# Altium integrated library Linear Technology Power Management System Supervisor, Monitor and Control.IntLib: 1611 symbols (part 4 of 100)
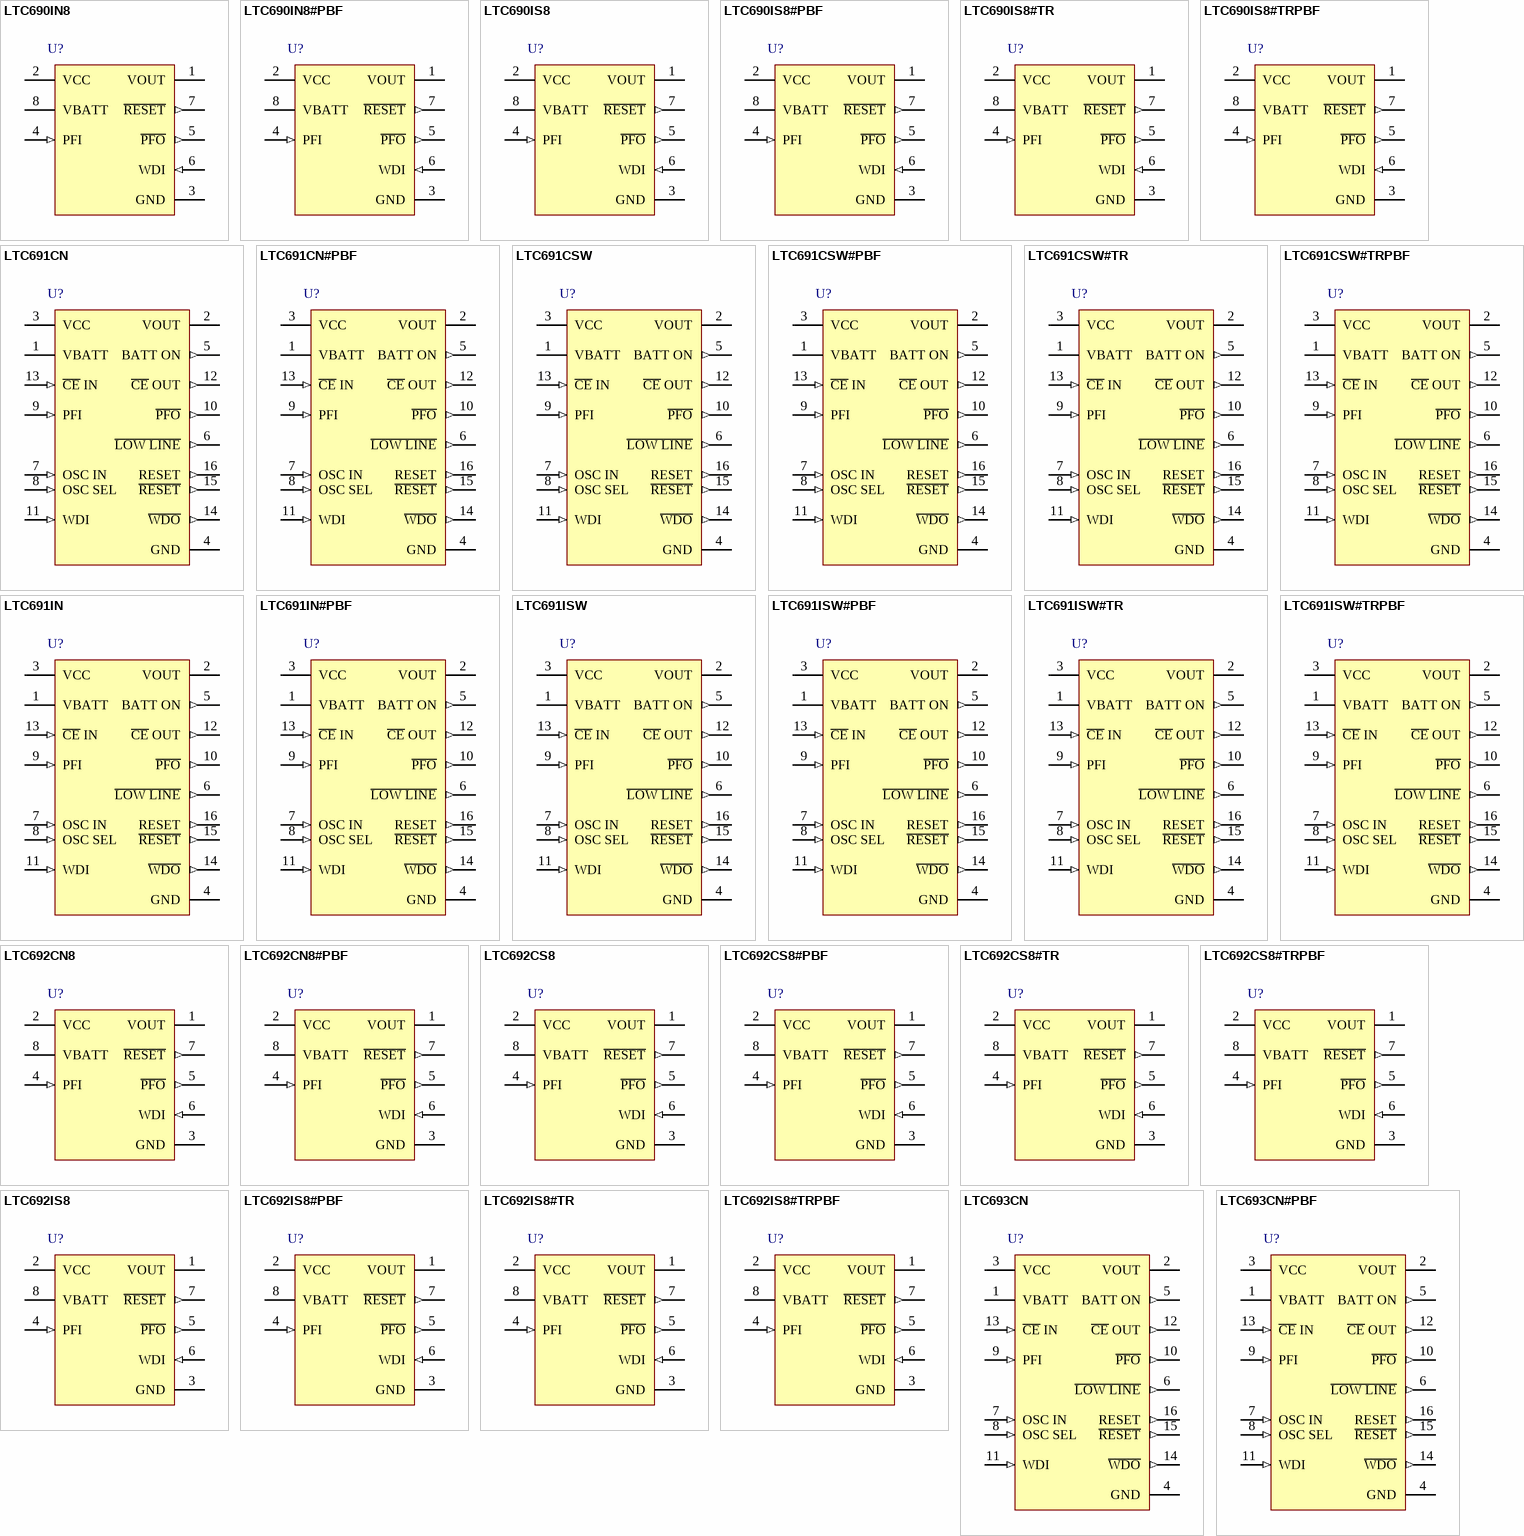
[diagram p48: symbols LTC690IN8 to LTC693CN#PBF]

## LTC692CN8#PBF
designator U?
Microprocessor Supervisory Circuit, 8-pin DIP (N8-8), 0 to 70 degC, Pb-Free; Manufacturer: Linear Technology; PartNumber: LTC692CN8#PBF; Number of Supplies(#): 1; DatasheetVersion: Rev. B; PackageVersion: Rev. I, 07/2011; PackageReference: N8-8; PackageDescription: 8-Pin PDIP, Body 10.16 x 6.48 mm, Pitch 2.54 mm; Supplier 1: Digi-Key; Supplier Part Number 1: LTC692CN8#PBF-ND; RoHS: TRUE; Mounting Technology: Through Hole; ComponentLink1Description: Manufacturer URL; ComponentLink1URL: http://www.linear.com/; ComponentLink2Description: Datasheet; ComponentLink2URL: http://cds.linear.com/docs/en/datasheet/0692fb.pdf; ComponentLink3Description: Package Specification; ComponentLink3URL: http://www.linear.com/docs/en/packaging/05081510_I_N8.pdf
footprint LT-N8-8 (DIP, 8-Leads, Body 10.15x6.85mm, Pitch 2.54mm)
pins: 1 VOUT (power) "Voltage Output for Backed Up Memory. Bypass with a capacitor of 0.1uF or greater. During normal operation, VOUT obtains power from VCC through an NMOS power switch, M1, which can deliver up to 50mA and has a typical on (See Datasheet)", 2 VCC (power), 3 GND (power) "Ground pin.", 4 PFI (in) "Power Failure Input. PFI is the noninverting input to the power-fail comparator, C3. The inverting input is internally connected to a 1.3V reference. The power failure output remains high when PFI is above 1.3V and goes low (See Datasheet)", 5 ~{PFO} (out) "Power Failure Output from C3. P\F\O\ remains high when PFI is above 1.3V and goes low when PFI is below 1.3V. When VCC is lower than VBATT, C3 is shut down and P\F\O\ is forced low.", 6 WDI (in) "Watchdog Input, WDI, is a three level input. Driving WDI either high or low for longer than the watchdog timeout period, forces both R\E\S\E\T\ and W\D\O\ low. Floating WDI disables the watchdog timer. The timer resets (See Datasheet)", 7 ~{RESET} (out), 8 VBATT (power) "Back-Up Battery Input. When VCC falls below VBATT, auxiliary power, connected to VBATT, is delivered to VOUT through PMOS switch, M2. If back-up battery or auxiliary power is not used, VBATT should be connected to GND."

## LTC692CS8
designator U?
Microprocessor Supervisory Circuit, 8-pin SOIC (S8-8), 0 to 70 degC; Manufacturer: Linear Technology; PartNumber: LTC692CS8; Number of Supplies(#): 1; DatasheetVersion: Rev. B; PackageVersion: Rev. G, 03/2012; PackageReference: S8-8; PackageDescription: 8-Pin Plastic Small Outline (Narrow .150 Inch), Body 4.9 x 3.9 mm, Pitch 1.27 mm; Supplier 1: Digi-Key; Supplier Part Number 1: LTC692CS8-ND; RoHS: FALSE; Mounting Technology: Surface Mount; ComponentLink1Description: Manufacturer URL; ComponentLink1URL: http://www.linear.com/; ComponentLink2Description: Datasheet; ComponentLink2URL: http://cds.linear.com/docs/en/datasheet/0692fb.pdf; ComponentLink3Description: Package Specification; ComponentLink3URL: http://cds.linear.com/docs/en/packaging/05081610_G_SO8.pdf
footprint LT-S8-8_N (SOIC, 8-Leads, Body 5x4mm, Pitch 1.27mm, IPC Medium Density)
footprint LT-S8-8_L (SOIC, 8-Leads, Body 5x4mm, Pitch 1.27mm, IPC High Density)
footprint LT-S8-8_M (SOIC, 8-Leads, Body 5x4mm, Pitch 1.27mm, IPC Low Density)
pins: 1 VOUT (power) "Voltage Output for Backed Up Memory. Bypass with a capacitor of 0.1uF or greater. During normal operation, VOUT obtains power from VCC through an NMOS power switch, M1, which can deliver up to 50mA and has a typical on (See Datasheet)", 2 VCC (power), 3 GND (power) "Ground pin.", 4 PFI (in) "Power Failure Input. PFI is the noninverting input to the power-fail comparator, C3. The inverting input is internally connected to a 1.3V reference. The power failure output remains high when PFI is above 1.3V and goes low (See Datasheet)", 5 ~{PFO} (out) "Power Failure Output from C3. P\F\O\ remains high when PFI is above 1.3V and goes low when PFI is below 1.3V. When VCC is lower than VBATT, C3 is shut down and P\F\O\ is forced low.", 6 WDI (in) "Watchdog Input, WDI, is a three level input. Driving WDI either high or low for longer than the watchdog timeout period, forces both R\E\S\E\T\ and W\D\O\ low. Floating WDI disables the watchdog timer. The timer resets (See Datasheet)", 7 ~{RESET} (out), 8 VBATT (power) "Back-Up Battery Input. When VCC falls below VBATT, auxiliary power, connected to VBATT, is delivered to VOUT through PMOS switch, M2. If back-up battery or auxiliary power is not used, VBATT should be connected to GND."

## LTC692CS8#PBF
designator U?
Microprocessor Supervisory Circuit, 8-pin SOIC (S8-8), 0 to 70 degC, Pb-Free; Manufacturer: Linear Technology; PartNumber: LTC692CS8#PBF; Number of Supplies(#): 1; DatasheetVersion: Rev. B; PackageVersion: Rev. G, 03/2012; PackageReference: S8-8; PackageDescription: 8-Pin Plastic Small Outline (Narrow .150 Inch), Body 4.9 x 3.9 mm, Pitch 1.27 mm; Supplier 1: Digi-Key; Supplier Part Number 1: LTC692CS8#PBF-ND; RoHS: TRUE; Mounting Technology: Surface Mount; ComponentLink1Description: Manufacturer URL; ComponentLink1URL: http://www.linear.com/; ComponentLink2Description: Datasheet; ComponentLink2URL: http://cds.linear.com/docs/en/datasheet/0692fb.pdf; ComponentLink3Description: Package Specification; ComponentLink3URL: http://cds.linear.com/docs/en/packaging/05081610_G_SO8.pdf
footprint LT-S8-8_N (SOIC, 8-Leads, Body 5x4mm, Pitch 1.27mm, IPC Medium Density)
footprint LT-S8-8_L (SOIC, 8-Leads, Body 5x4mm, Pitch 1.27mm, IPC High Density)
footprint LT-S8-8_M (SOIC, 8-Leads, Body 5x4mm, Pitch 1.27mm, IPC Low Density)
pins: 1 VOUT (power) "Voltage Output for Backed Up Memory. Bypass with a capacitor of 0.1uF or greater. During normal operation, VOUT obtains power from VCC through an NMOS power switch, M1, which can deliver up to 50mA and has a typical on (See Datasheet)", 2 VCC (power), 3 GND (power) "Ground pin.", 4 PFI (in) "Power Failure Input. PFI is the noninverting input to the power-fail comparator, C3. The inverting input is internally connected to a 1.3V reference. The power failure output remains high when PFI is above 1.3V and goes low (See Datasheet)", 5 ~{PFO} (out) "Power Failure Output from C3. P\F\O\ remains high when PFI is above 1.3V and goes low when PFI is below 1.3V. When VCC is lower than VBATT, C3 is shut down and P\F\O\ is forced low.", 6 WDI (in) "Watchdog Input, WDI, is a three level input. Driving WDI either high or low for longer than the watchdog timeout period, forces both R\E\S\E\T\ and W\D\O\ low. Floating WDI disables the watchdog timer. The timer resets (See Datasheet)", 7 ~{RESET} (out), 8 VBATT (power) "Back-Up Battery Input. When VCC falls below VBATT, auxiliary power, connected to VBATT, is delivered to VOUT through PMOS switch, M2. If back-up battery or auxiliary power is not used, VBATT should be connected to GND."

## LTC692CS8#TR
designator U?
Microprocessor Supervisory Circuit, 8-pin SOIC (S8-8), 0 to 70 degC, Tape and Reel; Manufacturer: Linear Technology; PartNumber: LTC692CS8#TR; Number of Supplies(#): 1; DatasheetVersion: Rev. B; PackageVersion: Rev. G, 03/2012; PackageReference: S8-8; PackageDescription: 8-Pin Plastic Small Outline (Narrow .150 Inch), Body 4.9 x 3.9 mm, Pitch 1.27 mm; Supplier 1: Digi-Key; Supplier Part Number 1: LTC692CS8#TR-ND; Packing: Tape and Reel; RoHS: FALSE; Mounting Technology: Surface Mount; ComponentLink1Description: Manufacturer URL; ComponentLink1URL: http://www.linear.com/; ComponentLink2Description: Datasheet; ComponentLink2URL: http://cds.linear.com/docs/en/datasheet/0692fb.pdf; ComponentLink3Description: Package Specification; ComponentLink3URL: http://cds.linear.com/docs/en/packaging/05081610_G_SO8.pdf
footprint LT-S8-8_N (SOIC, 8-Leads, Body 5x4mm, Pitch 1.27mm, IPC Medium Density)
footprint LT-S8-8_L (SOIC, 8-Leads, Body 5x4mm, Pitch 1.27mm, IPC High Density)
footprint LT-S8-8_M (SOIC, 8-Leads, Body 5x4mm, Pitch 1.27mm, IPC Low Density)
pins: 1 VOUT (power) "Voltage Output for Backed Up Memory. Bypass with a capacitor of 0.1uF or greater. During normal operation, VOUT obtains power from VCC through an NMOS power switch, M1, which can deliver up to 50mA and has a typical on (See Datasheet)", 2 VCC (power), 3 GND (power) "Ground pin.", 4 PFI (in) "Power Failure Input. PFI is the noninverting input to the power-fail comparator, C3. The inverting input is internally connected to a 1.3V reference. The power failure output remains high when PFI is above 1.3V and goes low (See Datasheet)", 5 ~{PFO} (out) "Power Failure Output from C3. P\F\O\ remains high when PFI is above 1.3V and goes low when PFI is below 1.3V. When VCC is lower than VBATT, C3 is shut down and P\F\O\ is forced low.", 6 WDI (in) "Watchdog Input, WDI, is a three level input. Driving WDI either high or low for longer than the watchdog timeout period, forces both R\E\S\E\T\ and W\D\O\ low. Floating WDI disables the watchdog timer. The timer resets (See Datasheet)", 7 ~{RESET} (out), 8 VBATT (power) "Back-Up Battery Input. When VCC falls below VBATT, auxiliary power, connected to VBATT, is delivered to VOUT through PMOS switch, M2. If back-up battery or auxiliary power is not used, VBATT should be connected to GND."

## LTC692CS8#TRPBF
designator U?
Microprocessor Supervisory Circuit, 8-pin SOIC (S8-8), 0 to 70 degC, Pb-Free, Tape and Reel; Manufacturer: Linear Technology; PartNumber: LTC692CS8#TRPBF; Number of Supplies(#): 1; DatasheetVersion: Rev. B; PackageVersion: Rev. G, 03/2012; PackageReference: S8-8; PackageDescription: 8-Pin Plastic Small Outline (Narrow .150 Inch), Body 4.9 x 3.9 mm, Pitch 1.27 mm; Supplier 1: Digi-Key; Supplier Part Number 1: LTC692CS8#TRPBF-ND; Packing: Tape and Reel; RoHS: TRUE; Mounting Technology: Surface Mount; ComponentLink1Description: Manufacturer URL; ComponentLink1URL: http://www.linear.com/; ComponentLink2Description: Datasheet; ComponentLink2URL: http://cds.linear.com/docs/en/datasheet/0692fb.pdf; ComponentLink3Description: Package Specification; ComponentLink3URL: http://cds.linear.com/docs/en/packaging/05081610_G_SO8.pdf
footprint LT-S8-8_N (SOIC, 8-Leads, Body 5x4mm, Pitch 1.27mm, IPC Medium Density)
footprint LT-S8-8_L (SOIC, 8-Leads, Body 5x4mm, Pitch 1.27mm, IPC High Density)
footprint LT-S8-8_M (SOIC, 8-Leads, Body 5x4mm, Pitch 1.27mm, IPC Low Density)
pins: 1 VOUT (power) "Voltage Output for Backed Up Memory. Bypass with a capacitor of 0.1uF or greater. During normal operation, VOUT obtains power from VCC through an NMOS power switch, M1, which can deliver up to 50mA and has a typical on (See Datasheet)", 2 VCC (power), 3 GND (power) "Ground pin.", 4 PFI (in) "Power Failure Input. PFI is the noninverting input to the power-fail comparator, C3. The inverting input is internally connected to a 1.3V reference. The power failure output remains high when PFI is above 1.3V and goes low (See Datasheet)", 5 ~{PFO} (out) "Power Failure Output from C3. P\F\O\ remains high when PFI is above 1.3V and goes low when PFI is below 1.3V. When VCC is lower than VBATT, C3 is shut down and P\F\O\ is forced low.", 6 WDI (in) "Watchdog Input, WDI, is a three level input. Driving WDI either high or low for longer than the watchdog timeout period, forces both R\E\S\E\T\ and W\D\O\ low. Floating WDI disables the watchdog timer. The timer resets (See Datasheet)", 7 ~{RESET} (out), 8 VBATT (power) "Back-Up Battery Input. When VCC falls below VBATT, auxiliary power, connected to VBATT, is delivered to VOUT through PMOS switch, M2. If back-up battery or auxiliary power is not used, VBATT should be connected to GND."

## LTC692IS8
designator U?
Microprocessor Supervisory Circuit, 8-pin SOIC (S8-8), -40 to 85 degC; Manufacturer: Linear Technology; PartNumber: LTC692IS8; Number of Supplies(#): 1; DatasheetVersion: Rev. B; PackageVersion: Rev. G, 03/2012; PackageReference: S8-8; PackageDescription: 8-Pin Plastic Small Outline (Narrow .150 Inch), Body 4.9 x 3.9 mm, Pitch 1.27 mm; Supplier 1: Digi-Key; Supplier Part Number 1: LTC692IS8-ND; RoHS: FALSE; Mounting Technology: Surface Mount; ComponentLink1Description: Manufacturer URL; ComponentLink1URL: http://www.linear.com/; ComponentLink2Description: Datasheet; ComponentLink2URL: http://cds.linear.com/docs/en/datasheet/0692fb.pdf; ComponentLink3Description: Package Specification; ComponentLink3URL: http://cds.linear.com/docs/en/packaging/05081610_G_SO8.pdf
footprint LT-S8-8_N (SOIC, 8-Leads, Body 5x4mm, Pitch 1.27mm, IPC Medium Density)
footprint LT-S8-8_L (SOIC, 8-Leads, Body 5x4mm, Pitch 1.27mm, IPC High Density)
footprint LT-S8-8_M (SOIC, 8-Leads, Body 5x4mm, Pitch 1.27mm, IPC Low Density)
pins: 1 VOUT (power) "Voltage Output for Backed Up Memory. Bypass with a capacitor of 0.1uF or greater. During normal operation, VOUT obtains power from VCC through an NMOS power switch, M1, which can deliver up to 50mA and has a typical on (See Datasheet)", 2 VCC (power), 3 GND (power) "Ground pin.", 4 PFI (in) "Power Failure Input. PFI is the noninverting input to the power-fail comparator, C3. The inverting input is internally connected to a 1.3V reference. The power failure output remains high when PFI is above 1.3V and goes low (See Datasheet)", 5 ~{PFO} (out) "Power Failure Output from C3. P\F\O\ remains high when PFI is above 1.3V and goes low when PFI is below 1.3V. When VCC is lower than VBATT, C3 is shut down and P\F\O\ is forced low.", 6 WDI (in) "Watchdog Input, WDI, is a three level input. Driving WDI either high or low for longer than the watchdog timeout period, forces both R\E\S\E\T\ and W\D\O\ low. Floating WDI disables the watchdog timer. The timer resets (See Datasheet)", 7 ~{RESET} (out), 8 VBATT (power) "Back-Up Battery Input. When VCC falls below VBATT, auxiliary power, connected to VBATT, is delivered to VOUT through PMOS switch, M2. If back-up battery or auxiliary power is not used, VBATT should be connected to GND."

## LTC692IS8#PBF
designator U?
Microprocessor Supervisory Circuit, 8-pin SOIC (S8-8), -40 to 85 degC, Pb-Free; Manufacturer: Linear Technology; PartNumber: LTC692IS8#PBF; Number of Supplies(#): 1; DatasheetVersion: Rev. B; PackageVersion: Rev. G, 03/2012; PackageReference: S8-8; PackageDescription: 8-Pin Plastic Small Outline (Narrow .150 Inch), Body 4.9 x 3.9 mm, Pitch 1.27 mm; Supplier 1: Digi-Key; Supplier Part Number 1: LTC692IS8#PBF-ND; RoHS: TRUE; Mounting Technology: Surface Mount; ComponentLink1Description: Manufacturer URL; ComponentLink1URL: http://www.linear.com/; ComponentLink2Description: Datasheet; ComponentLink2URL: http://cds.linear.com/docs/en/datasheet/0692fb.pdf; ComponentLink3Description: Package Specification; ComponentLink3URL: http://cds.linear.com/docs/en/packaging/05081610_G_SO8.pdf
footprint LT-S8-8_N (SOIC, 8-Leads, Body 5x4mm, Pitch 1.27mm, IPC Medium Density)
footprint LT-S8-8_L (SOIC, 8-Leads, Body 5x4mm, Pitch 1.27mm, IPC High Density)
footprint LT-S8-8_M (SOIC, 8-Leads, Body 5x4mm, Pitch 1.27mm, IPC Low Density)
pins: 1 VOUT (power) "Voltage Output for Backed Up Memory. Bypass with a capacitor of 0.1uF or greater. During normal operation, VOUT obtains power from VCC through an NMOS power switch, M1, which can deliver up to 50mA and has a typical on (See Datasheet)", 2 VCC (power), 3 GND (power) "Ground pin.", 4 PFI (in) "Power Failure Input. PFI is the noninverting input to the power-fail comparator, C3. The inverting input is internally connected to a 1.3V reference. The power failure output remains high when PFI is above 1.3V and goes low (See Datasheet)", 5 ~{PFO} (out) "Power Failure Output from C3. P\F\O\ remains high when PFI is above 1.3V and goes low when PFI is below 1.3V. When VCC is lower than VBATT, C3 is shut down and P\F\O\ is forced low.", 6 WDI (in) "Watchdog Input, WDI, is a three level input. Driving WDI either high or low for longer than the watchdog timeout period, forces both R\E\S\E\T\ and W\D\O\ low. Floating WDI disables the watchdog timer. The timer resets (See Datasheet)", 7 ~{RESET} (out), 8 VBATT (power) "Back-Up Battery Input. When VCC falls below VBATT, auxiliary power, connected to VBATT, is delivered to VOUT through PMOS switch, M2. If back-up battery or auxiliary power is not used, VBATT should be connected to GND."

## LTC692IS8#TR
designator U?
Microprocessor Supervisory Circuit, 8-pin SOIC (S8-8), -40 to 85 degC, Tape and Reel; Manufacturer: Linear Technology; PartNumber: LTC692IS8#TR; Number of Supplies(#): 1; DatasheetVersion: Rev. B; PackageVersion: Rev. G, 03/2012; PackageReference: S8-8; PackageDescription: 8-Pin Plastic Small Outline (Narrow .150 Inch), Body 4.9 x 3.9 mm, Pitch 1.27 mm; Supplier 1: Digi-Key; Supplier Part Number 1: LTC692IS8#TR-ND; Packing: Tape and Reel; RoHS: FALSE; Mounting Technology: Surface Mount; ComponentLink1Description: Manufacturer URL; ComponentLink1URL: http://www.linear.com/; ComponentLink2Description: Datasheet; ComponentLink2URL: http://cds.linear.com/docs/en/datasheet/0692fb.pdf; ComponentLink3Description: Package Specification; ComponentLink3URL: http://cds.linear.com/docs/en/packaging/05081610_G_SO8.pdf
footprint LT-S8-8_N (SOIC, 8-Leads, Body 5x4mm, Pitch 1.27mm, IPC Medium Density)
footprint LT-S8-8_L (SOIC, 8-Leads, Body 5x4mm, Pitch 1.27mm, IPC High Density)
footprint LT-S8-8_M (SOIC, 8-Leads, Body 5x4mm, Pitch 1.27mm, IPC Low Density)
pins: 1 VOUT (power) "Voltage Output for Backed Up Memory. Bypass with a capacitor of 0.1uF or greater. During normal operation, VOUT obtains power from VCC through an NMOS power switch, M1, which can deliver up to 50mA and has a typical on (See Datasheet)", 2 VCC (power), 3 GND (power) "Ground pin.", 4 PFI (in) "Power Failure Input. PFI is the noninverting input to the power-fail comparator, C3. The inverting input is internally connected to a 1.3V reference. The power failure output remains high when PFI is above 1.3V and goes low (See Datasheet)", 5 ~{PFO} (out) "Power Failure Output from C3. P\F\O\ remains high when PFI is above 1.3V and goes low when PFI is below 1.3V. When VCC is lower than VBATT, C3 is shut down and P\F\O\ is forced low.", 6 WDI (in) "Watchdog Input, WDI, is a three level input. Driving WDI either high or low for longer than the watchdog timeout period, forces both R\E\S\E\T\ and W\D\O\ low. Floating WDI disables the watchdog timer. The timer resets (See Datasheet)", 7 ~{RESET} (out), 8 VBATT (power) "Back-Up Battery Input. When VCC falls below VBATT, auxiliary power, connected to VBATT, is delivered to VOUT through PMOS switch, M2. If back-up battery or auxiliary power is not used, VBATT should be connected to GND."

## LTC692IS8#TRPBF
designator U?
Microprocessor Supervisory Circuit, 8-pin SOIC (S8-8), -40 to 85 degC, Pb-Free, Tape and Reel; Manufacturer: Linear Technology; PartNumber: LTC692IS8#TRPBF; Number of Supplies(#): 1; DatasheetVersion: Rev. B; PackageVersion: Rev. G, 03/2012; PackageReference: S8-8; PackageDescription: 8-Pin Plastic Small Outline (Narrow .150 Inch), Body 4.9 x 3.9 mm, Pitch 1.27 mm; Supplier 1: Digi-Key; Supplier Part Number 1: LTC692IS8#TRPBF-ND; Packing: Tape and Reel; RoHS: TRUE; Mounting Technology: Surface Mount; ComponentLink1Description: Manufacturer URL; ComponentLink1URL: http://www.linear.com/; ComponentLink2Description: Datasheet; ComponentLink2URL: http://cds.linear.com/docs/en/datasheet/0692fb.pdf; ComponentLink3Description: Package Specification; ComponentLink3URL: http://cds.linear.com/docs/en/packaging/05081610_G_SO8.pdf
footprint LT-S8-8_N (SOIC, 8-Leads, Body 5x4mm, Pitch 1.27mm, IPC Medium Density)
footprint LT-S8-8_L (SOIC, 8-Leads, Body 5x4mm, Pitch 1.27mm, IPC High Density)
footprint LT-S8-8_M (SOIC, 8-Leads, Body 5x4mm, Pitch 1.27mm, IPC Low Density)
pins: 1 VOUT (power) "Voltage Output for Backed Up Memory. Bypass with a capacitor of 0.1uF or greater. During normal operation, VOUT obtains power from VCC through an NMOS power switch, M1, which can deliver up to 50mA and has a typical on (See Datasheet)", 2 VCC (power), 3 GND (power) "Ground pin.", 4 PFI (in) "Power Failure Input. PFI is the noninverting input to the power-fail comparator, C3. The inverting input is internally connected to a 1.3V reference. The power failure output remains high when PFI is above 1.3V and goes low (See Datasheet)", 5 ~{PFO} (out) "Power Failure Output from C3. P\F\O\ remains high when PFI is above 1.3V and goes low when PFI is below 1.3V. When VCC is lower than VBATT, C3 is shut down and P\F\O\ is forced low.", 6 WDI (in) "Watchdog Input, WDI, is a three level input. Driving WDI either high or low for longer than the watchdog timeout period, forces both R\E\S\E\T\ and W\D\O\ low. Floating WDI disables the watchdog timer. The timer resets (See Datasheet)", 7 ~{RESET} (out), 8 VBATT (power) "Back-Up Battery Input. When VCC falls below VBATT, auxiliary power, connected to VBATT, is delivered to VOUT through PMOS switch, M2. If back-up battery or auxiliary power is not used, VBATT should be connected to GND."

## LTC693CN
designator U?
Microprocessor Supervisory Circuit, 16-pin DIP (N-16), 0 to 70 degC; Manufacturer: Linear Technology; PartNumber: LTC693CN; Number of Supplies(#): 1; DatasheetVersion: Rev. B; PackageVersion: Rev. I, 07/2011; PackageReference: N-16; PackageDescription: 16-Pin PDIP, Body 19.56 x 6.48 mm, Pitch 2.54 mm; Supplier 1: Digi-Key; Supplier Part Number 1: LTC693CN-ND; RoHS: FALSE; Mounting Technology: Through Hole; ComponentLink1Description: Manufacturer URL; ComponentLink1URL: http://www.linear.com/; ComponentLink2Description: Datasheet; ComponentLink2URL: http://cds.linear.com/docs/en/datasheet/0692fb.pdf; ComponentLink3Description: Package Specification; ComponentLink3URL: http://cds.linear.com/docs/en/packaging/05081510_I_N16.pdf
footprint LT-N-16 (DIP, 16-Leads, Body 19.56x6.48mm, Pitch 2.54mm)
pins: 1 VBATT (power) "Back-Up Battery Input. When VCC falls below VBATT, auxiliary power connected to VBATT, is delivered to VOUTthrough PMOS switch, M2. If back-up battery or auxiliary power is not used, VBATT should be connected to GND.", 2 VOUT (power) "Voltage Output for Backed Up Memory. Bypass with a capacitor of 0.1uF or greater. During normal operation, VOUT obtains power from VCC through an NMOS power switch, M1, which can deliver up to 50mA and has a typical on (See Datasheet)", 3 VCC (power), 4 GND (power) "Ground Pin.", 5 BATT ON (out), 6 ~{LOW LINE} (out), 7 OSC IN (in), 8 OSC SEL (in), 9 PFI (in) "Power Failure Input. PFI is the noninverting input to the power-fail comparator, C3. The inverting input is internally connected to a 1.3V reference. The power failure output remains high when PFI is above 1.3V and goes low (See Datasheet)", 10 ~{PFO} (out) "Power Failure Output from C3. P\F\O\ remains high when PFI is above 1.3V and goes low when PFI is below 1.3V. When VCC is lower than VBATT, C3 is shut down and P\F\O\ is forced low.", 11 WDI (in) "Watchdog Input. WDI is a three-level input. Driving WDI either high or low for longer than the watchdog timeout period, forces both R\E\S\E\T\ and W\D\O\ low. Floating WDI disables the watchdog timer. The timer resets itself (See Datasheet)", 12 ~{CE} OUT (out) "Logic Output on the C\h\i\p\ \E\n\a\b\l\e\ Gating Circuit. When VCC is above the reset voltage threshold, C\E\ OUT is a buffered replica of C\E\ IN. When VCC is below the reset voltage threshold C\E\ OUT is forced high (see (See Datasheet)", 13 ~{CE} IN (in), 14 ~{WDO} (out) "Watchdog Logic Output. When the watchdog input remains either high or low for longer than the watchdog timeout period, W\D\O\ goes low. W\D\O\ is set high whenever there is a transition on the WDI pin, or L\O\W\ \L\I\N\E\ (See Datasheet)", 15 ~{RESET} (out), 16 RESET (out) "Active High Logic Output. It is the inverse of R\E\S\E\T\."

## LTC693CN#PBF
designator U?
Microprocessor Supervisory Circuit, 16-pin DIP (N-16), 0 to 70 degC, Pb-Free; Manufacturer: Linear Technology; PartNumber: LTC693CN#PBF; Number of Supplies(#): 1; DatasheetVersion: Rev. B; PackageVersion: Rev. I, 07/2011; PackageReference: N-16; PackageDescription: 16-Pin PDIP, Body 19.56 x 6.48 mm, Pitch 2.54 mm; Supplier 1: Digi-Key; Supplier Part Number 1: LTC693CN#PBF-ND; RoHS: TRUE; Mounting Technology: Through Hole; ComponentLink1Description: Manufacturer URL; ComponentLink1URL: http://www.linear.com/; ComponentLink2Description: Datasheet; ComponentLink2URL: http://cds.linear.com/docs/en/datasheet/0692fb.pdf; ComponentLink3Description: Package Specification; ComponentLink3URL: http://cds.linear.com/docs/en/packaging/05081510_I_N16.pdf
footprint LT-N-16 (DIP, 16-Leads, Body 19.56x6.48mm, Pitch 2.54mm)
pins: 1 VBATT (power) "Back-Up Battery Input. When VCC falls below VBATT, auxiliary power connected to VBATT, is delivered to VOUTthrough PMOS switch, M2. If back-up battery or auxiliary power is not used, VBATT should be connected to GND.", 2 VOUT (power) "Voltage Output for Backed Up Memory. Bypass with a capacitor of 0.1uF or greater. During normal operation, VOUT obtains power from VCC through an NMOS power switch, M1, which can deliver up to 50mA and has a typical on (See Datasheet)", 3 VCC (power), 4 GND (power) "Ground Pin.", 5 BATT ON (out), 6 ~{LOW LINE} (out), 7 OSC IN (in), 8 OSC SEL (in), 9 PFI (in) "Power Failure Input. PFI is the noninverting input to the power-fail comparator, C3. The inverting input is internally connected to a 1.3V reference. The power failure output remains high when PFI is above 1.3V and goes low (See Datasheet)", 10 ~{PFO} (out) "Power Failure Output from C3. P\F\O\ remains high when PFI is above 1.3V and goes low when PFI is below 1.3V. When VCC is lower than VBATT, C3 is shut down and P\F\O\ is forced low.", 11 WDI (in) "Watchdog Input. WDI is a three-level input. Driving WDI either high or low for longer than the watchdog timeout period, forces both R\E\S\E\T\ and W\D\O\ low. Floating WDI disables the watchdog timer. The timer resets itself (See Datasheet)", 12 ~{CE} OUT (out) "Logic Output on the C\h\i\p\ \E\n\a\b\l\e\ Gating Circuit. When VCC is above the reset voltage threshold, C\E\ OUT is a buffered replica of C\E\ IN. When VCC is below the reset voltage threshold C\E\ OUT is forced high (see (See Datasheet)", 13 ~{CE} IN (in), 14 ~{WDO} (out) "Watchdog Logic Output. When the watchdog input remains either high or low for longer than the watchdog timeout period, W\D\O\ goes low. W\D\O\ is set high whenever there is a transition on the WDI pin, or L\O\W\ \L\I\N\E\ (See Datasheet)", 15 ~{RESET} (out), 16 RESET (out) "Active High Logic Output. It is the inverse of R\E\S\E\T\."

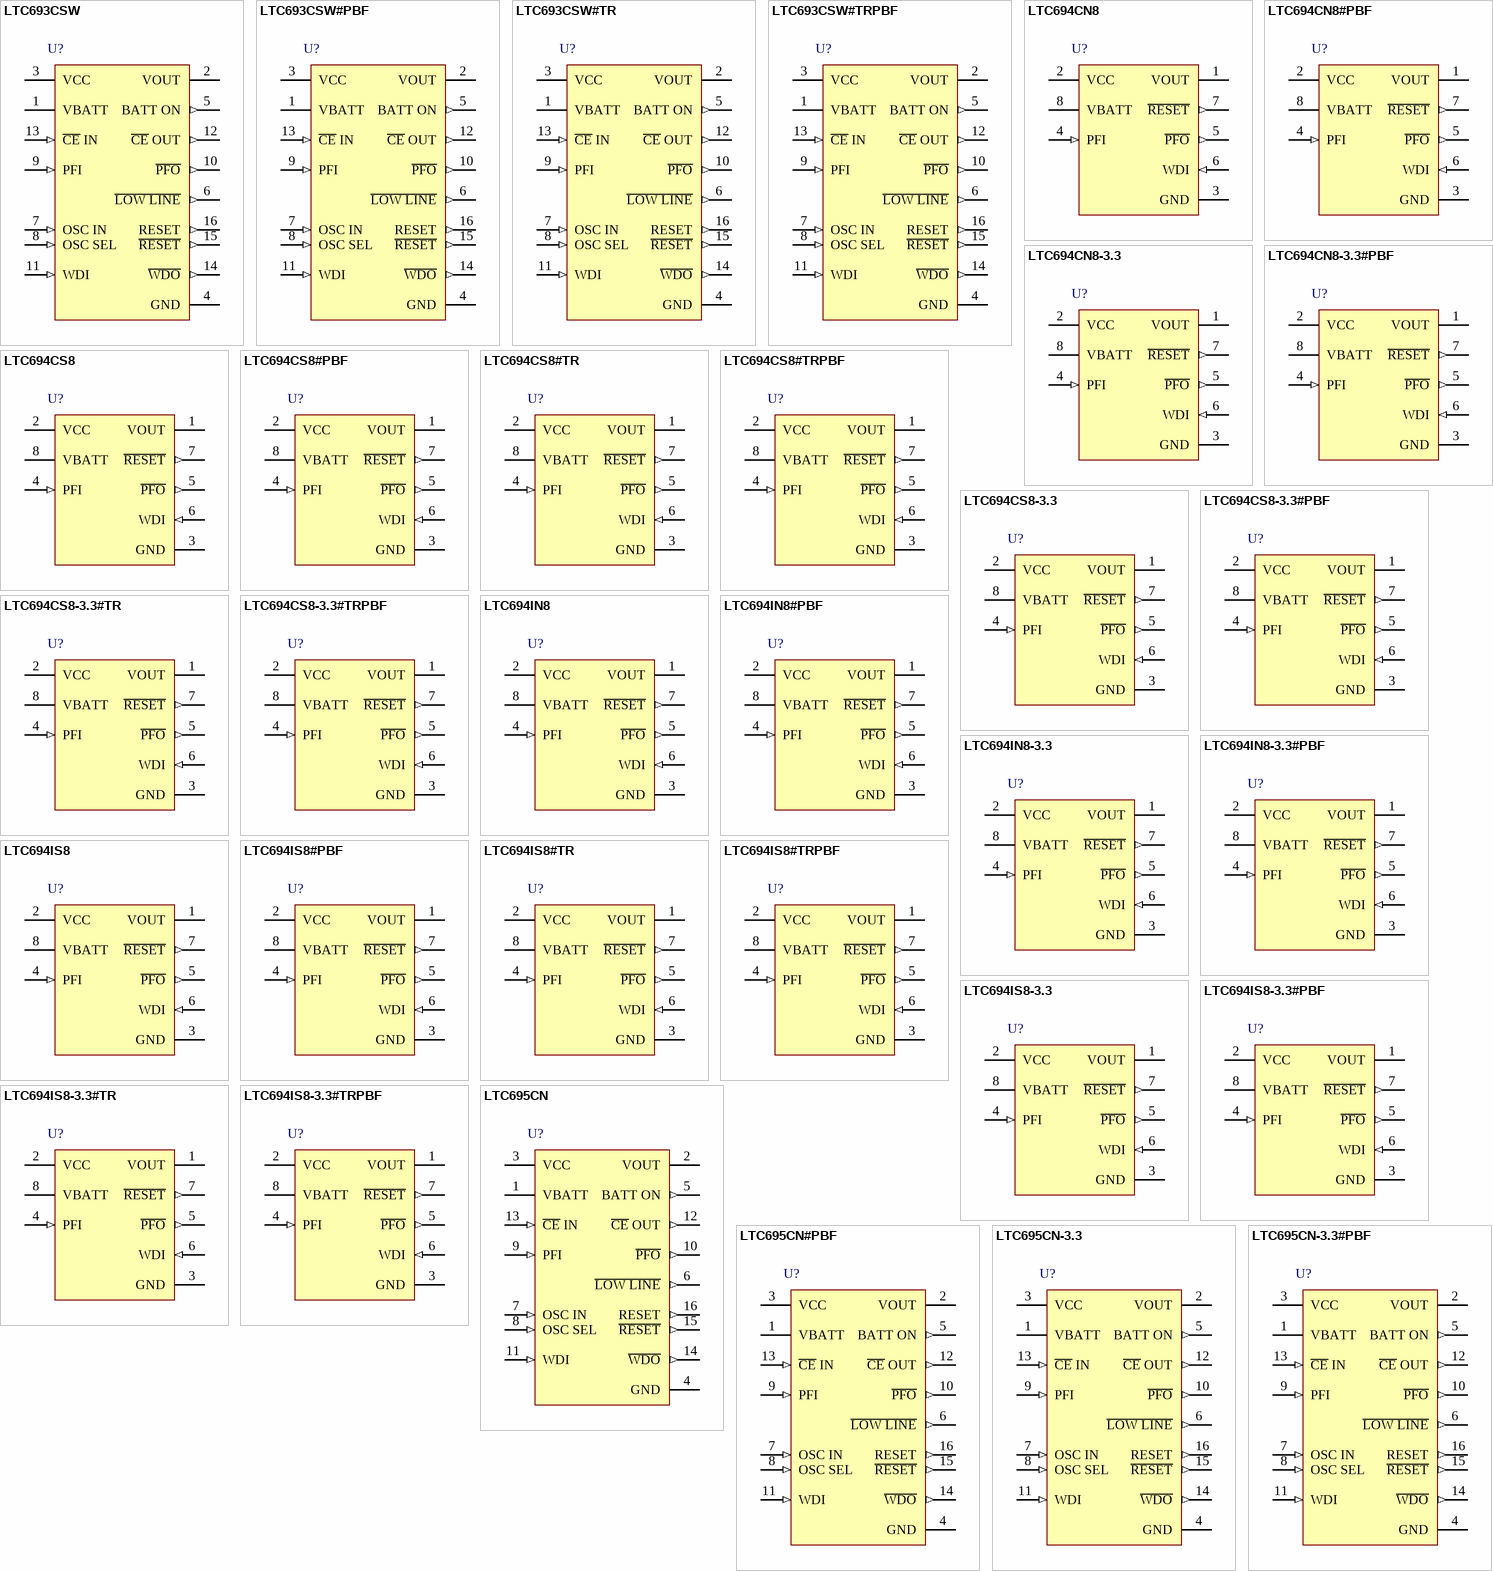
[diagram p2: symbols LTC693CSW to LTC695CN-3.3#PBF]

## LTC693CSW
designator U?
Microprocessor Supervisory Circuit, 16-pin SOIC (SW-16), 0 to 70 degC; Manufacturer: Linear Technology; PartNumber: LTC693CSW; Number of Supplies(#): 1; DatasheetVersion: Rev. B; PackageVersion: Jun-10; PackageReference: SW-16; PackageDescription: 16-Pin Plastic Small Outline, Body 10.30 x 7.49 mm, Pitch 1.27 mm; Supplier 1: Digi-Key; Supplier Part Number 1: LTC693CSW-ND; RoHS: FALSE; Mounting Technology: Surface Mount; ComponentLink1Description: Manufacturer URL; ComponentLink1URL: http://www.linear.com/; ComponentLink2Description: Datasheet; ComponentLink2URL: http://cds.linear.com/docs/en/datasheet/0692fb.pdf; ComponentLink3Description: Package Specification; ComponentLink3URL: http://www.linear.com/docs/en/packaging/SO_16_05-08-1620.pdf
footprint LT-SW-16_N (SOIC, 16-Leads, Body 10.3x7.49mm, Pitch 1.27mm, IPC Medium Density)
footprint LT-SW-16_L (SOIC, 16-Leads, Body 10.3x7.49mm, Pitch 1.27mm, IPC High Density)
footprint LT-SW-16_M (SOIC, 16-Leads, Body 10.3x7.49mm, Pitch 1.27mm, IPC Low Density)
pins: 1 VBATT (power) "Back-Up Battery Input. When VCC falls below VBATT, auxiliary power connected to VBATT, is delivered to VOUTthrough PMOS switch, M2. If back-up battery or auxiliary power is not used, VBATT should be connected to GND.", 2 VOUT (power) "Voltage Output for Backed Up Memory. Bypass with a capacitor of 0.1uF or greater. During normal operation, VOUT obtains power from VCC through an NMOS power switch, M1, which can deliver up to 50mA and has a typical on (See Datasheet)", 3 VCC (power), 4 GND (power) "Ground Pin.", 5 BATT ON (out), 6 ~{LOW LINE} (out), 7 OSC IN (in), 8 OSC SEL (in), 9 PFI (in) "Power Failure Input. PFI is the noninverting input to the power-fail comparator, C3. The inverting input is internally connected to a 1.3V reference. The power failure output remains high when PFI is above 1.3V and goes low (See Datasheet)", 10 ~{PFO} (out) "Power Failure Output from C3. P\F\O\ remains high when PFI is above 1.3V and goes low when PFI is below 1.3V. When VCC is lower than VBATT, C3 is shut down and P\F\O\ is forced low.", 11 WDI (in) "Watchdog Input. WDI is a three-level input. Driving WDI either high or low for longer than the watchdog timeout period, forces both R\E\S\E\T\ and W\D\O\ low. Floating WDI disables the watchdog timer. The timer resets itself (See Datasheet)", 12 ~{CE} OUT (out) "Logic Output on the C\h\i\p\ \E\n\a\b\l\e\ Gating Circuit. When VCC is above the reset voltage threshold, C\E\ OUT is a buffered replica of C\E\ IN. When VCC is below the reset voltage threshold C\E\ OUT is forced high (see (See Datasheet)", 13 ~{CE} IN (in), 14 ~{WDO} (out) "Watchdog Logic Output. When the watchdog input remains either high or low for longer than the watchdog timeout period, W\D\O\ goes low. W\D\O\ is set high whenever there is a transition on the WDI pin, or L\O\W\ \L\I\N\E\ (See Datasheet)", 15 ~{RESET} (out), 16 RESET (out) "Active High Logic Output. It is the inverse of R\E\S\E\T\."

## LTC693CSW#PBF
designator U?
Microprocessor Supervisory Circuit, 16-pin SOIC (SW-16), 0 to 70 degC, Pb-Free; Manufacturer: Linear Technology; PartNumber: LTC693CSW#PBF; Number of Supplies(#): 1; DatasheetVersion: Rev. B; PackageVersion: Jun-10; PackageReference: SW-16; PackageDescription: 16-Pin Plastic Small Outline, Body 10.30 x 7.49 mm, Pitch 1.27 mm; Supplier 1: Digi-Key; Supplier Part Number 1: LTC693CSW#PBF-ND; RoHS: TRUE; Mounting Technology: Surface Mount; ComponentLink1Description: Manufacturer URL; ComponentLink1URL: http://www.linear.com/; ComponentLink2Description: Datasheet; ComponentLink2URL: http://cds.linear.com/docs/en/datasheet/0692fb.pdf; ComponentLink3Description: Package Specification; ComponentLink3URL: http://www.linear.com/docs/en/packaging/SO_16_05-08-1620.pdf
footprint LT-SW-16_N (SOIC, 16-Leads, Body 10.3x7.49mm, Pitch 1.27mm, IPC Medium Density)
footprint LT-SW-16_L (SOIC, 16-Leads, Body 10.3x7.49mm, Pitch 1.27mm, IPC High Density)
footprint LT-SW-16_M (SOIC, 16-Leads, Body 10.3x7.49mm, Pitch 1.27mm, IPC Low Density)
pins: 1 VBATT (power) "Back-Up Battery Input. When VCC falls below VBATT, auxiliary power connected to VBATT, is delivered to VOUTthrough PMOS switch, M2. If back-up battery or auxiliary power is not used, VBATT should be connected to GND.", 2 VOUT (power) "Voltage Output for Backed Up Memory. Bypass with a capacitor of 0.1uF or greater. During normal operation, VOUT obtains power from VCC through an NMOS power switch, M1, which can deliver up to 50mA and has a typical on (See Datasheet)", 3 VCC (power), 4 GND (power) "Ground Pin.", 5 BATT ON (out), 6 ~{LOW LINE} (out), 7 OSC IN (in), 8 OSC SEL (in), 9 PFI (in) "Power Failure Input. PFI is the noninverting input to the power-fail comparator, C3. The inverting input is internally connected to a 1.3V reference. The power failure output remains high when PFI is above 1.3V and goes low (See Datasheet)", 10 ~{PFO} (out) "Power Failure Output from C3. P\F\O\ remains high when PFI is above 1.3V and goes low when PFI is below 1.3V. When VCC is lower than VBATT, C3 is shut down and P\F\O\ is forced low.", 11 WDI (in) "Watchdog Input. WDI is a three-level input. Driving WDI either high or low for longer than the watchdog timeout period, forces both R\E\S\E\T\ and W\D\O\ low. Floating WDI disables the watchdog timer. The timer resets itself (See Datasheet)", 12 ~{CE} OUT (out) "Logic Output on the C\h\i\p\ \E\n\a\b\l\e\ Gating Circuit. When VCC is above the reset voltage threshold, C\E\ OUT is a buffered replica of C\E\ IN. When VCC is below the reset voltage threshold C\E\ OUT is forced high (see (See Datasheet)", 13 ~{CE} IN (in), 14 ~{WDO} (out) "Watchdog Logic Output. When the watchdog input remains either high or low for longer than the watchdog timeout period, W\D\O\ goes low. W\D\O\ is set high whenever there is a transition on the WDI pin, or L\O\W\ \L\I\N\E\ (See Datasheet)", 15 ~{RESET} (out), 16 RESET (out) "Active High Logic Output. It is the inverse of R\E\S\E\T\."

## LTC693CSW#TR
designator U?
Microprocessor Supervisory Circuit, 16-pin SOIC (SW-16), 0 to 70 degC, Tape and Reel; Manufacturer: Linear Technology; PartNumber: LTC693CSW#TR; Number of Supplies(#): 1; DatasheetVersion: Rev. B; PackageVersion: Jun-10; PackageReference: SW-16; PackageDescription: 16-Pin Plastic Small Outline, Body 10.30 x 7.49 mm, Pitch 1.27 mm; Supplier 1: Digi-Key; Supplier Part Number 1: LTC693CSW#TR-ND; Packing: Tape and Reel; RoHS: FALSE; Mounting Technology: Surface Mount; ComponentLink1Description: Manufacturer URL; ComponentLink1URL: http://www.linear.com/; ComponentLink2Description: Datasheet; ComponentLink2URL: http://cds.linear.com/docs/en/datasheet/0692fb.pdf; ComponentLink3Description: Package Specification; ComponentLink3URL: http://www.linear.com/docs/en/packaging/SO_16_05-08-1620.pdf
footprint LT-SW-16_N (SOIC, 16-Leads, Body 10.3x7.49mm, Pitch 1.27mm, IPC Medium Density)
footprint LT-SW-16_L (SOIC, 16-Leads, Body 10.3x7.49mm, Pitch 1.27mm, IPC High Density)
footprint LT-SW-16_M (SOIC, 16-Leads, Body 10.3x7.49mm, Pitch 1.27mm, IPC Low Density)
pins: 1 VBATT (power) "Back-Up Battery Input. When VCC falls below VBATT, auxiliary power connected to VBATT, is delivered to VOUTthrough PMOS switch, M2. If back-up battery or auxiliary power is not used, VBATT should be connected to GND.", 2 VOUT (power) "Voltage Output for Backed Up Memory. Bypass with a capacitor of 0.1uF or greater. During normal operation, VOUT obtains power from VCC through an NMOS power switch, M1, which can deliver up to 50mA and has a typical on (See Datasheet)", 3 VCC (power), 4 GND (power) "Ground Pin.", 5 BATT ON (out), 6 ~{LOW LINE} (out), 7 OSC IN (in), 8 OSC SEL (in), 9 PFI (in) "Power Failure Input. PFI is the noninverting input to the power-fail comparator, C3. The inverting input is internally connected to a 1.3V reference. The power failure output remains high when PFI is above 1.3V and goes low (See Datasheet)", 10 ~{PFO} (out) "Power Failure Output from C3. P\F\O\ remains high when PFI is above 1.3V and goes low when PFI is below 1.3V. When VCC is lower than VBATT, C3 is shut down and P\F\O\ is forced low.", 11 WDI (in) "Watchdog Input. WDI is a three-level input. Driving WDI either high or low for longer than the watchdog timeout period, forces both R\E\S\E\T\ and W\D\O\ low. Floating WDI disables the watchdog timer. The timer resets itself (See Datasheet)", 12 ~{CE} OUT (out) "Logic Output on the C\h\i\p\ \E\n\a\b\l\e\ Gating Circuit. When VCC is above the reset voltage threshold, C\E\ OUT is a buffered replica of C\E\ IN. When VCC is below the reset voltage threshold C\E\ OUT is forced high (see (See Datasheet)", 13 ~{CE} IN (in), 14 ~{WDO} (out) "Watchdog Logic Output. When the watchdog input remains either high or low for longer than the watchdog timeout period, W\D\O\ goes low. W\D\O\ is set high whenever there is a transition on the WDI pin, or L\O\W\ \L\I\N\E\ (See Datasheet)", 15 ~{RESET} (out), 16 RESET (out) "Active High Logic Output. It is the inverse of R\E\S\E\T\."

## LTC693CSW#TRPBF
designator U?
Microprocessor Supervisory Circuit, 16-pin SOIC (SW-16), 0 to 70 degC, Pb-Free, Tape and Reel; Manufacturer: Linear Technology; PartNumber: LTC693CSW#TRPBF; Number of Supplies(#): 1; DatasheetVersion: Rev. B; PackageVersion: Jun-10; PackageReference: SW-16; PackageDescription: 16-Pin Plastic Small Outline, Body 10.30 x 7.49 mm, Pitch 1.27 mm; Supplier 1: Digi-Key; Supplier Part Number 1: LTC693CSW#TRPBF-ND; Packing: Tape and Reel; RoHS: TRUE; Mounting Technology: Surface Mount; ComponentLink1Description: Manufacturer URL; ComponentLink1URL: http://www.linear.com/; ComponentLink2Description: Datasheet; ComponentLink2URL: http://cds.linear.com/docs/en/datasheet/0692fb.pdf; ComponentLink3Description: Package Specification; ComponentLink3URL: http://www.linear.com/docs/en/packaging/SO_16_05-08-1620.pdf
footprint LT-SW-16_N (SOIC, 16-Leads, Body 10.3x7.49mm, Pitch 1.27mm, IPC Medium Density)
footprint LT-SW-16_L (SOIC, 16-Leads, Body 10.3x7.49mm, Pitch 1.27mm, IPC High Density)
footprint LT-SW-16_M (SOIC, 16-Leads, Body 10.3x7.49mm, Pitch 1.27mm, IPC Low Density)
pins: 1 VBATT (power) "Back-Up Battery Input. When VCC falls below VBATT, auxiliary power connected to VBATT, is delivered to VOUTthrough PMOS switch, M2. If back-up battery or auxiliary power is not used, VBATT should be connected to GND.", 2 VOUT (power) "Voltage Output for Backed Up Memory. Bypass with a capacitor of 0.1uF or greater. During normal operation, VOUT obtains power from VCC through an NMOS power switch, M1, which can deliver up to 50mA and has a typical on (See Datasheet)", 3 VCC (power), 4 GND (power) "Ground Pin.", 5 BATT ON (out), 6 ~{LOW LINE} (out), 7 OSC IN (in), 8 OSC SEL (in), 9 PFI (in) "Power Failure Input. PFI is the noninverting input to the power-fail comparator, C3. The inverting input is internally connected to a 1.3V reference. The power failure output remains high when PFI is above 1.3V and goes low (See Datasheet)", 10 ~{PFO} (out) "Power Failure Output from C3. P\F\O\ remains high when PFI is above 1.3V and goes low when PFI is below 1.3V. When VCC is lower than VBATT, C3 is shut down and P\F\O\ is forced low.", 11 WDI (in) "Watchdog Input. WDI is a three-level input. Driving WDI either high or low for longer than the watchdog timeout period, forces both R\E\S\E\T\ and W\D\O\ low. Floating WDI disables the watchdog timer. The timer resets itself (See Datasheet)", 12 ~{CE} OUT (out) "Logic Output on the C\h\i\p\ \E\n\a\b\l\e\ Gating Circuit. When VCC is above the reset voltage threshold, C\E\ OUT is a buffered replica of C\E\ IN. When VCC is below the reset voltage threshold C\E\ OUT is forced high (see (See Datasheet)", 13 ~{CE} IN (in), 14 ~{WDO} (out) "Watchdog Logic Output. When the watchdog input remains either high or low for longer than the watchdog timeout period, W\D\O\ goes low. W\D\O\ is set high whenever there is a transition on the WDI pin, or L\O\W\ \L\I\N\E\ (See Datasheet)", 15 ~{RESET} (out), 16 RESET (out) "Active High Logic Output. It is the inverse of R\E\S\E\T\."

## LTC694CN8
designator U?
UL Recognized Battery Backup, 8-pin DIP (N8-8), 0 to 70 degC; Manufacturer: Linear Technology; PartNumber: LTC694CN8; Number of Supplies(#): 1; DatasheetVersion: Rev. F; PackageVersion: Rev. I, 07/2011; PackageReference: N8-8; PackageDescription: 8-Pin PDIP, Body 10.16 x 6.48 mm, Pitch 2.54 mm; Supplier 1: Digi-Key; Supplier Part Number 1: LTC694CN8-ND; RoHS: FALSE; Mounting Technology: Through Hole; ComponentLink1Description: Manufacturer URL; ComponentLink1URL: http://www.linear.com/; ComponentLink2Description: Datasheet; ComponentLink2URL: http://cds.linear.com/docs/en/datasheet/690ff.pdf; ComponentLink3Description: Package Specification; ComponentLink3URL: http://www.linear.com/docs/en/packaging/05081510_I_N8.pdf
footprint LT-N8-8 (DIP, 8-Leads, Body 10.15x6.85mm, Pitch 2.54mm)
pins: 1 VOUT (power) "Voltage Output for Backed Up Memory. Bypass with a capacitor of 0.1uF or greater. During normal operation, VOUT obtains power from VCC through an NMOS power switch, M1, which can deliver up to 50mA and has a typical on (See Datasheet)", 2 VCC (power), 3 GND (power) "Ground pin.", 4 PFI (in) "Power Failure Input. PFI is the noninverting input to the power-fail comparator, C3. The inverting input is internally connected to a 1.3V reference. The power failure output remains high when PFI is above 1.3V and goes low (See Datasheet)", 5 ~{PFO} (out) "Power Failure Output from C3. P\F\O\ remains high when PFI is above 1.3V and goes low when PFI is below 1.3V. When VCC is lower than VBATT, C3 is shut down and P\F\O\ is forced low.", 6 WDI (in) "Watchdog Input, WDI, is a three level input. Driving WDI either high or low for longer than the watchdog timeout period, forces both R\E\S\E\T\ and W\D\O\ low. Floating WDI disables the watchdog timer. The timer resets (See Datasheet)", 7 ~{RESET} (out), 8 VBATT (power) "Back-Up Battery Input. When VCC falls below VBATT, auxiliary power, connected to VBATT, is delivered to VOUT through PMOS switch, M2. If back-up battery or auxiliary power is not used, VBATT should be connected to GND."

## LTC694CN8#PBF
designator U?
UL Recognized Battery Backup, 8-pin DIP (N8-8), 0 to 70 degC, Pb-Free; Manufacturer: Linear Technology; PartNumber: LTC694CN8#PBF; Number of Supplies(#): 1; DatasheetVersion: Rev. F; PackageVersion: Rev. I, 07/2011; PackageReference: N8-8; PackageDescription: 8-Pin PDIP, Body 10.16 x 6.48 mm, Pitch 2.54 mm; Supplier 1: Digi-Key; Supplier Part Number 1: LTC694CN8#PBF-ND; RoHS: TRUE; Mounting Technology: Through Hole; ComponentLink1Description: Manufacturer URL; ComponentLink1URL: http://www.linear.com/; ComponentLink2Description: Datasheet; ComponentLink2URL: http://cds.linear.com/docs/en/datasheet/690ff.pdf; ComponentLink3Description: Package Specification; ComponentLink3URL: http://www.linear.com/docs/en/packaging/05081510_I_N8.pdf
footprint LT-N8-8 (DIP, 8-Leads, Body 10.15x6.85mm, Pitch 2.54mm)
pins: 1 VOUT (power) "Voltage Output for Backed Up Memory. Bypass with a capacitor of 0.1uF or greater. During normal operation, VOUT obtains power from VCC through an NMOS power switch, M1, which can deliver up to 50mA and has a typical on (See Datasheet)", 2 VCC (power), 3 GND (power) "Ground pin.", 4 PFI (in) "Power Failure Input. PFI is the noninverting input to the power-fail comparator, C3. The inverting input is internally connected to a 1.3V reference. The power failure output remains high when PFI is above 1.3V and goes low (See Datasheet)", 5 ~{PFO} (out) "Power Failure Output from C3. P\F\O\ remains high when PFI is above 1.3V and goes low when PFI is below 1.3V. When VCC is lower than VBATT, C3 is shut down and P\F\O\ is forced low.", 6 WDI (in) "Watchdog Input, WDI, is a three level input. Driving WDI either high or low for longer than the watchdog timeout period, forces both R\E\S\E\T\ and W\D\O\ low. Floating WDI disables the watchdog timer. The timer resets (See Datasheet)", 7 ~{RESET} (out), 8 VBATT (power) "Back-Up Battery Input. When VCC falls below VBATT, auxiliary power, connected to VBATT, is delivered to VOUT through PMOS switch, M2. If back-up battery or auxiliary power is not used, VBATT should be connected to GND."

## LTC694CN8-3.3
designator U?
UL Recognized Battery Backup, 8-pin DIP (N8-8), 0 to 70 degC; Manufacturer: Linear Technology; PartNumber: LTC694CN8-3.3; Number of Supplies(#): 1; DatasheetVersion: Rev. B; PackageVersion: Rev. I, 07/2011; PackageReference: N8-8; PackageDescription: 8-Pin PDIP, Body 10.16 x 6.48 mm, Pitch 2.54 mm; Supplier 1: Digi-Key; Supplier Part Number 1: LTC694CN8-3.3-ND; RoHS: FALSE; Mounting Technology: Through Hole; ComponentLink1Description: Manufacturer URL; ComponentLink1URL: http://www.linear.com/; ComponentLink2Description: Datasheet; ComponentLink2URL: http://cds.linear.com/docs/en/datasheet/69453fb.pdf; ComponentLink3Description: Package Specification; ComponentLink3URL: http://www.linear.com/docs/en/packaging/05081510_I_N8.pdf
footprint LT-N8-8 (DIP, 8-Leads, Body 10.15x6.85mm, Pitch 2.54mm)
pins: 1 VOUT (power) "Voltage Output for Backed Up Memory. Bypass with a capacitor of 0.1uF or greater. During normal operation, VOUT obtains power from VCC through an NMOS power switch, M1, which can deliver up to 50mA and has a typical on (See Datasheet)", 2 VCC (power), 3 GND (power) "Ground pin.", 4 PFI (in) "Power Failure Input. PFI is the noninverting input to the power-fail comparator, C3. The inverting input is internally connected to a 1.3V reference. The power failure output remains high when PFI is above 1.3V and goes low (See Datasheet)", 5 ~{PFO} (out) "Power Failure Output from C3. P\F\O\ remains high when PFI is above 1.3V and goes low when PFI is below 1.3V. When VCC is lower than VBATT, C3 is shut down and P\F\O\ is forced low.", 6 WDI (in) "Watchdog Input, WDI, is a three level input. Driving WDI either high or low for longer than the watchdog timeout period, forces both R\E\S\E\T\ and W\D\O\ low. Floating WDI disables the watchdog timer. The timer resets (See Datasheet)", 7 ~{RESET} (out), 8 VBATT (power) "Back-Up Battery Input. When VCC falls below VBATT, auxiliary power, connected to VBATT, is delivered to VOUT through PMOS switch, M2. If back-up battery or auxiliary power is not used, VBATT should be connected to GND."

## LTC694CN8-3.3#PBF
designator U?
UL Recognized Battery Backup, 8-pin DIP (N8-8), 0 to 70 degC, Pb-Free; Manufacturer: Linear Technology; PartNumber: LTC694CN8-3.3#PBF; Number of Supplies(#): 1; DatasheetVersion: Rev. B; PackageVersion: Rev. I, 07/2011; PackageReference: N8-8; PackageDescription: 8-Pin PDIP, Body 10.16 x 6.48 mm, Pitch 2.54 mm; Supplier 1: Digi-Key; Supplier Part Number 1: LTC694CN8-3.3#PBF-ND; RoHS: TRUE; Mounting Technology: Through Hole; ComponentLink1Description: Manufacturer URL; ComponentLink1URL: http://www.linear.com/; ComponentLink2Description: Datasheet; ComponentLink2URL: http://cds.linear.com/docs/en/datasheet/69453fb.pdf; ComponentLink3Description: Package Specification; ComponentLink3URL: http://www.linear.com/docs/en/packaging/05081510_I_N8.pdf
footprint LT-N8-8 (DIP, 8-Leads, Body 10.15x6.85mm, Pitch 2.54mm)
pins: 1 VOUT (power) "Voltage Output for Backed Up Memory. Bypass with a capacitor of 0.1uF or greater. During normal operation, VOUT obtains power from VCC through an NMOS power switch, M1, which can deliver up to 50mA and has a typical on (See Datasheet)", 2 VCC (power), 3 GND (power) "Ground pin.", 4 PFI (in) "Power Failure Input. PFI is the noninverting input to the power-fail comparator, C3. The inverting input is internally connected to a 1.3V reference. The power failure output remains high when PFI is above 1.3V and goes low (See Datasheet)", 5 ~{PFO} (out) "Power Failure Output from C3. P\F\O\ remains high when PFI is above 1.3V and goes low when PFI is below 1.3V. When VCC is lower than VBATT, C3 is shut down and P\F\O\ is forced low.", 6 WDI (in) "Watchdog Input, WDI, is a three level input. Driving WDI either high or low for longer than the watchdog timeout period, forces both R\E\S\E\T\ and W\D\O\ low. Floating WDI disables the watchdog timer. The timer resets (See Datasheet)", 7 ~{RESET} (out), 8 VBATT (power) "Back-Up Battery Input. When VCC falls below VBATT, auxiliary power, connected to VBATT, is delivered to VOUT through PMOS switch, M2. If back-up battery or auxiliary power is not used, VBATT should be connected to GND."

## LTC694CS8
designator U?
UL Recognized Battery Backup, 8-pin SOIC (S8-8), 0 to 70 degC; Manufacturer: Linear Technology; PartNumber: LTC694CS8; Number of Supplies(#): 1; DatasheetVersion: Rev. F; PackageVersion: Rev. G, 03/2012; PackageReference: S8-8; PackageDescription: 8-Pin Plastic Small Outline (Narrow .150 Inch), Body 4.9 x 3.9 mm, Pitch 1.27 mm; Supplier 1: Digi-Key; Supplier Part Number 1: LTC694CS8-ND; RoHS: FALSE; Mounting Technology: Surface Mount; ComponentLink1Description: Manufacturer URL; ComponentLink1URL: http://www.linear.com/; ComponentLink2Description: Datasheet; ComponentLink2URL: http://cds.linear.com/docs/en/datasheet/690ff.pdf; ComponentLink3Description: Package Specification; ComponentLink3URL: http://cds.linear.com/docs/en/packaging/05081610_G_SO8.pdf
footprint LT-S8-8_N (SOIC, 8-Leads, Body 5x4mm, Pitch 1.27mm, IPC Medium Density)
footprint LT-S8-8_L (SOIC, 8-Leads, Body 5x4mm, Pitch 1.27mm, IPC High Density)
footprint LT-S8-8_M (SOIC, 8-Leads, Body 5x4mm, Pitch 1.27mm, IPC Low Density)
pins: 1 VOUT (power) "Voltage Output for Backed Up Memory. Bypass with a capacitor of 0.1uF or greater. During normal operation, VOUT obtains power from VCC through an NMOS power switch, M1, which can deliver up to 50mA and has a typical on (See Datasheet)", 2 VCC (power), 3 GND (power) "Ground pin.", 4 PFI (in) "Power Failure Input. PFI is the noninverting input to the power-fail comparator, C3. The inverting input is internally connected to a 1.3V reference. The power failure output remains high when PFI is above 1.3V and goes low (See Datasheet)", 5 ~{PFO} (out) "Power Failure Output from C3. P\F\O\ remains high when PFI is above 1.3V and goes low when PFI is below 1.3V. When VCC is lower than VBATT, C3 is shut down and P\F\O\ is forced low.", 6 WDI (in) "Watchdog Input, WDI, is a three level input. Driving WDI either high or low for longer than the watchdog timeout period, forces both R\E\S\E\T\ and W\D\O\ low. Floating WDI disables the watchdog timer. The timer resets (See Datasheet)", 7 ~{RESET} (out), 8 VBATT (power) "Back-Up Battery Input. When VCC falls below VBATT, auxiliary power, connected to VBATT, is delivered to VOUT through PMOS switch, M2. If back-up battery or auxiliary power is not used, VBATT should be connected to GND."